# Altium footprint library Connectors.PcbLib: 89 footprints (part 4 of 6)
Each footprint in its own frame and in the unit in brackets; x right, y up, seen from the top. Pads: shape width x height; smd on the part's side, far side on the other; paste and mask are expansions set on the pad; w line width, h text height; cw(c..) or ccw(c..) is an arc to the next point about the centre after c.
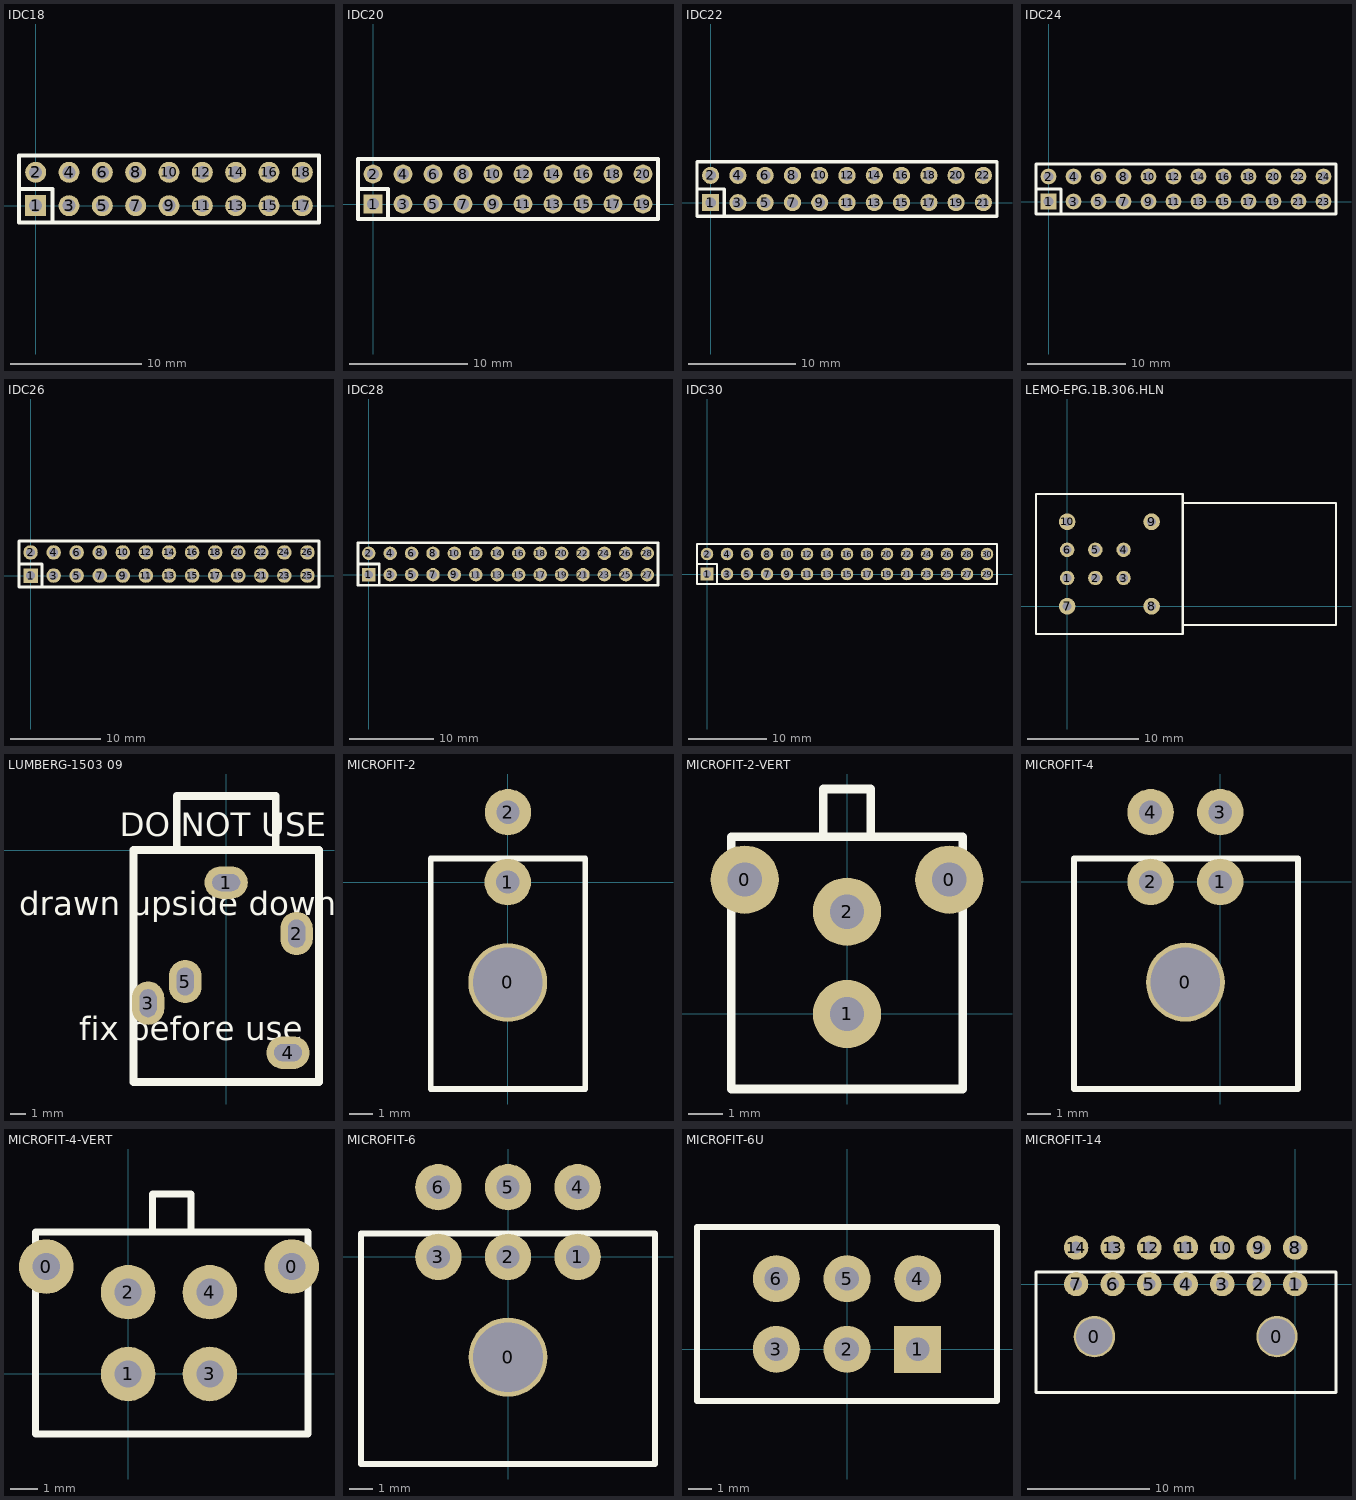
[diagram p3: the footprints below, top view; thin cyan lines are the x and y axes]

## IDC18 [mm]
pads (18):
  rect 1.6x1.6 hole 1: 1(0,0)
  round 1.6 hole 1: 2(0,2.54) 3(2.54,0) 4(2.54,2.54) 5(5.08,0) 6(5.08,2.54) 7(7.62,0) 8(7.62,2.54) 9(10.16,0) 10(10.16,2.54) 11(12.7,0) 12(12.7,2.54) 13(15.24,0) 14(15.24,2.54) 15(17.78,0) 16(17.78,2.54) 17(20.32,0) 18(20.32,2.54)
TopOverlay:
  lines w0.3: -1.27,1.27 1.2,1.27 ; 1.27,-1.27 1.27,1.27 ; -1.27,-1.27 -1.27,3.81 21.59,3.81 21.59,-1.27 -1.27,-1.27

## IDC20 [mm]
pads (20):
  rect 1.6x1.6 hole 1: 1(0,0)
  round 1.6 hole 1: 2(0,2.54) 3(2.54,0) 4(2.54,2.54) 5(5.08,0) 6(5.08,2.54) 7(7.62,0) 8(7.62,2.54) 9(10.16,0) 10(10.16,2.54) 11(12.7,0) 12(12.7,2.54) 13(15.24,0) 14(15.24,2.54) 15(17.78,0) 16(17.78,2.54) 17(20.32,0) 18(20.32,2.54) 19(22.86,0) 20(22.86,2.54)
TopOverlay:
  lines w0.3: -1.27,1.27 1.2,1.27 ; 1.27,-1.27 1.27,1.27 ; -1.27,-1.27 24.13,-1.27 24.13,3.81 -1.27,3.81 -1.27,-1.27

## IDC22 [mm]
pads (22):
  rect 1.6x1.6 hole 1: 1(0,0)
  round 1.6 hole 1: 2(0,2.54) 3(2.54,0) 4(2.54,2.54) 5(5.08,0) 6(5.08,2.54) 7(7.62,0) 8(7.62,2.54) 9(10.16,0) 10(10.16,2.54) 11(12.7,0) 12(12.7,2.54) 13(15.24,0) 14(15.24,2.54) 15(17.78,0) 16(17.78,2.54) 17(20.32,0) 18(20.32,2.54) 19(22.86,0) 20(22.86,2.54) 21(25.4,0) 22(25.4,2.54)
TopOverlay:
  lines w0.3: -1.27,1.27 1.2,1.27 ; 1.27,-1.27 1.27,1.27 ; -1.27,-1.27 26.67,-1.27 26.67,3.81 -1.27,3.81 -1.27,-1.27

## IDC24 [mm]
pads (24):
  rect 1.6x1.6 hole 1: 1(0,0)
  round 1.6 hole 1: 2(0,2.54) 3(2.54,0) 4(2.54,2.54) 5(5.08,0) 6(5.08,2.54) 7(7.62,0) 8(7.62,2.54) 9(10.16,0) 10(10.16,2.54) 11(12.7,0) 12(12.7,2.54) 13(15.24,0) 14(15.24,2.54) 15(17.78,0) 16(17.78,2.54) 17(20.32,0) 18(20.32,2.54) 19(22.86,0) 20(22.86,2.54) 21(25.4,0) 22(25.4,2.54) 23(27.94,0) 24(27.94,2.54)
TopOverlay:
  lines w0.3: -1.27,1.27 1.2,1.27 ; 1.27,-1.27 1.27,1.27 ; -1.27,-1.27 29.21,-1.27 29.21,3.81 -1.27,3.81 -1.27,-1.27

## IDC26 [mm]
pads (26):
  rect 1.6x1.6 hole 1: 1(0,0)
  round 1.6 hole 1: 2(0,2.54) 3(2.54,0) 4(2.54,2.54) 5(5.08,0) 6(5.08,2.54) 7(7.62,0) 8(7.62,2.54) 9(10.16,0) 10(10.16,2.54) 11(12.7,0) 12(12.7,2.54) 13(15.24,0) 14(15.24,2.54) 15(17.78,0) 16(17.78,2.54) 17(20.32,0) 18(20.32,2.54) 19(22.86,0) 20(22.86,2.54) 21(25.4,0) 22(25.4,2.54) 23(27.94,0) 24(27.94,2.54) 25(30.48,0) 26(30.48,2.54)
TopOverlay:
  lines w0.3: -1.27,1.27 1.2,1.27 ; 1.27,-1.27 1.27,1.27 ; -1.27,-1.27 31.75,-1.27 31.75,3.81 -1.27,3.81 -1.27,-1.27

## IDC28 [mm]
pads (28):
  rect 1.6x1.6 hole 1: 1(0,0)
  round 1.6 hole 1: 2(0,2.54) 3(2.54,0) 4(2.54,2.54) 5(5.08,0) 6(5.08,2.54) 7(7.62,0) 8(7.62,2.54) 9(10.16,0) 10(10.16,2.54) 11(12.7,0) 12(12.7,2.54) 13(15.24,0) 14(15.24,2.54) 15(17.78,0) 16(17.78,2.54) 17(20.32,0) 18(20.32,2.54) 19(22.86,0) 20(22.86,2.54) 21(25.4,0) 22(25.4,2.54) 23(27.94,0) 24(27.94,2.54) 25(30.48,0) 26(30.48,2.54) 27(33.02,0) 28(33.02,2.54)
TopOverlay:
  lines w0.3: -1.27,1.27 1.2,1.27 ; 1.27,-1.27 1.27,1.27 ; -1.27,-1.27 34.29,-1.27 34.29,3.81 -1.27,3.81 -1.27,-1.27

## IDC30 [mm]
pads (30):
  rect 1.6x1.6 hole 1: 1(0,0)
  round 1.6 hole 1: 2(0,2.54) 3(2.54,0) 4(2.54,2.54) 5(5.08,0) 6(5.08,2.54) 7(7.62,0) 8(7.62,2.54) 9(10.16,0) 10(10.16,2.54) 11(12.7,0) 12(12.7,2.54) 13(15.24,0) 14(15.24,2.54) 15(17.78,0) 16(17.78,2.54) 17(20.32,0) 18(20.32,2.54) 19(22.86,0) 20(22.86,2.54) 21(25.4,0) 22(25.4,2.54) 23(27.94,0) 24(27.94,2.54) 25(30.48,0) 26(30.48,2.54) 27(33.02,0) 28(33.02,2.54) 29(35.56,0) 30(35.56,2.54)
TopOverlay:
  lines w0.3: -1.27,1.27 1.2,1.27 ; 1.27,-1.27 1.27,1.27 ; -1.27,-1.27 36.83,-1.27 36.83,3.81 -1.27,3.81 -1.27,-1.27

## LEMO-EPG.1B.306.HLN [mm] "lemo connector, used in tritium"
pads (10):
  round 1.3 hole 0.8: 1(0,2.54) 2(2.54,2.54) 3(5.08,2.54) 4(5.08,5.08) 5(2.54,5.08) 6(0,5.08)
  round 1.5 hole 0.8: 7(0,0) 8(7.6,0) 9(7.6,7.6) 10(0,7.6)
TopOverlay:
  lines w0.2: 10.4,-1.7 24.2,-1.7 24.2,9.3 10.4,9.3 ; -2.8,-2.5 -2.8,10.1 10.4,10.1 10.4,-2.5 -2.8,-2.5

## LUMBERG-1503 09 [mm] "SOCKET, 3.5MM JACK, R/A, STEREO"
height 6
pads (5):
  oval 2.8x2.1 hole 1.1 slot 1.8 at 0 deg: 1(0,-2.1) 4(4,-13.1)
  oval 2.1x2.8 hole 1.1 slot 1.8 at 90 deg: 2(4.55,-5.4) 3(-5.05,-9.9) 5(-2.65,-8.5)
TopOverlay:
  lines w0.508: -3.2,0 -3.2,3.5 3.2,3.5 3.2,0 ; -6,-15 6,-15 6,0 -6,0 -6,-15
  text "fix before use" at -9.5,-12.3 h1.52
  text "drawn upside down" at -13.4,-4.2 h1.52
  text "DO NOT USE" at -6.9,0.9 h1.52

## MICROFIT-2 [mm]
pads (3):
  round 3.4 hole 3: 0(0,-4.32)
  round 2 hole 1: 1(0,0) 2(0.01,3.01)
TopOverlay:
  lines w0.254: -3.315,-8.91 3.335,-8.91 3.335,1.01 -3.315,1.01 -3.315,-8.91

## MICROFIT-2-VERT [mm]
pads (4):
  round 2 hole 1: 0(-3,3.94) 0(3,3.94) 1(0,0) 2(0,3)
TopOverlay:
  lines w0.254: -0.7,5.2 -0.7,6.6 0.7,6.6 0.7,5.2 ; -3.4,-2.2 -3.4,1.5 -3.4,5.2 3.4,5.2 3.4,-2.2 -3.4,-2.2

## MICROFIT-4 [mm]
pads (5):
  round 3.4 hole 3: 0(-1.5,-4.32)
  round 2 hole 1: 1(0,0) 2(-3,0) 3(0,3) 4(-3,3)
TopOverlay:
  lines w0.254: -6.3,-8.92 -6.3,1 3.35,1 3.35,-8.92 -6.3,-8.92

## MICROFIT-4-VERT [mm]
pads (6):
  round 2 hole 1: 0(-3,3.94) 0(6,3.94) 1(0,0) 2(0,3) 3(3,0) 4(3,3)
TopOverlay:
  lines w0.254: 0.9,5.2 0.9,6.6 2.3,6.6 2.3,5.2 ; -3.4,-2.2 6.6,-2.2 6.6,5.2 -3.4,5.2 -3.4,1.5 -3.4,-2.2

## MICROFIT-6 [mm]
pads (7):
  round 3.4 hole 3: 0(0,-4.32)
  round 2 hole 1: 1(3,0) 2(0,0) 3(-3,0) 4(3,3) 5(0,3) 6(-3,3)
TopOverlay:
  lines w0.254: -6.325,-8.92 -6.325,1 6.325,1 6.325,-8.92 -6.3,-8.92

## MICROFIT-6U [mm]
pads (6):
  rect 2x2 hole 1: 1(3,0)
  round 2 hole 1: 2(0,0) 3(-3,0) 4(3,3) 5(0,3) 6(-3,3)
TopOverlay:
  lines w0.254: -6.375,-2.2 -6.375,5.2 ; -6.325,5.2 6.325,5.2 ; -6.3,-2.2 6.325,-2.2 ; 6.375,-2.2 6.375,5.2

## MICROFIT-14 [mm]
pads (16):
  round 3.4 hole 3: 0(-16.5,-4.32) 0(-1.5,-4.32)
  round 2 hole 1: 1(0,0) 2(-3,0) 3(-6,0) 4(-9,0) 5(-12,0) 6(-15,0) 7(-18,0) 8(0,3) 9(-3,3) 10(-6,3) 11(-9,3) 12(-12,3) 13(-15,3) 14(-18,3)
TopOverlay:
  lines w0.254: -4.865,-8.91 -21.3,-8.92 -21.3,1 3.35,1 3.35,-8.92 -4.815,-8.91